# Altium footprint library CAPC0816X050.PcbLib: 3 footprints
Each footprint in its own frame and in the unit in brackets; x right, y up, seen from the top. Pads: shape width x height; smd on the part's side, far side on the other; paste and mask are expansions set on the pad; w line width, h text height; cw(c..) or ccw(c..) is an arc to the next point about the centre after c.
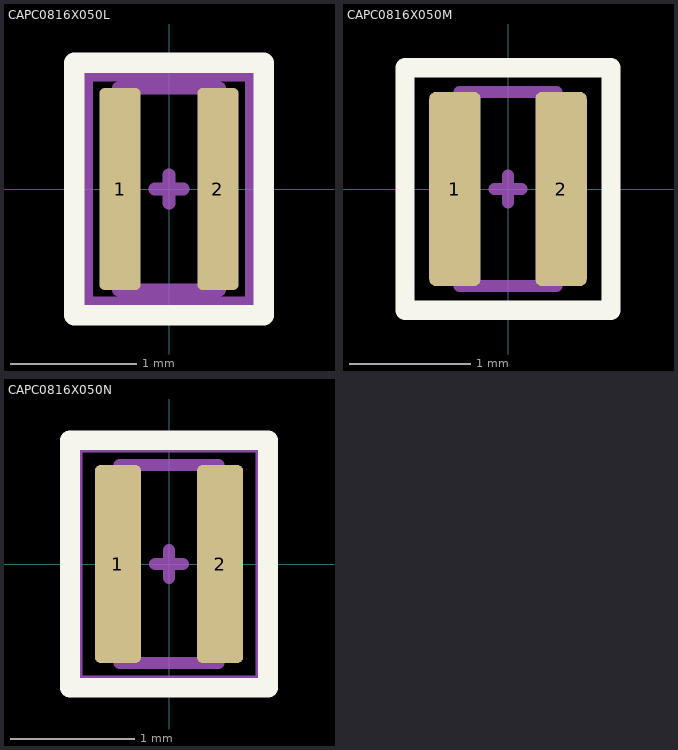
[diagram p0: the footprints below, top view; thin cyan lines are the x and y axes]

## CAPC0816X050L [mm] "Capacitors, Chip, Non-polarized"
height 0.55
pads (2):
  rrect25% 0.325x1.6 smd: 1(-0.387,0) 2(0.387,0)
Top Overlay:
  lines w0.16: -0.75,-1 0.75,-1 0.75,1 -0.75,1 -0.75,-1
Top Component Center:
  lines w0.1: -0.112,0 0.112,0 ; 0,-0.112 0,0.112
Top Courtyard:
  lines w0.1: -0.65,-0.9 0.65,-0.9 0.65,0.9 -0.65,0.9 -0.65,-0.9
Top Assembly:
  lines w0.1: -0.4,-0.8 0.4,-0.8 0.4,0.8 -0.4,0.8 -0.4,-0.8
  text ".Designator" at 0,0 h1
3D body "CAPC0816X050L.STEP": height 0.5, standoff 0, extent -0.4,-0.8 0.4,0.8

## CAPC0816X050M [mm] "Capacitors, Chip, Non-polarized"
height 0.55
pads (2):
  rrect25% 0.425x1.6 smd: 1(-0.437,0) 2(0.437,0)
Top Overlay:
  lines w0.16: -0.85,-1 0.85,-1 0.85,1 -0.85,1 -0.85,-1
Top Component Center:
  lines w0.1: -0.112,0 0.112,0 ; 0,-0.112 0,0.112
Top Courtyard:
  lines w0.1: -0.85,-1 0.85,-1 0.85,1 -0.85,1 -0.85,-1
Top Assembly:
  lines w0.1: -0.4,-0.8 0.4,-0.8 0.4,0.8 -0.4,0.8 -0.4,-0.8
  text ".Designator" at 0,0 h1
3D body "CAPC0816X050M.STEP": height 0.5, standoff 0, extent -0.4,-0.8 0.4,0.8

## CAPC0816X050N [mm] "Capacitors, Chip, Non-polarized"
height 0.55
pads (2):
  rrect25% 0.375x1.6 smd: 1(-0.412,0) 2(0.412,0)
Top Overlay:
  lines w0.16: -0.8,-1 0.8,-1 0.8,1 -0.8,1 -0.8,-1
Top Component Center:
  lines w0.1: -0.112,0 0.112,0 ; 0,-0.112 0,0.112
Top Courtyard:
  lines w0.1: -0.75,-0.95 0.75,-0.95 0.75,0.95 -0.75,0.95 -0.75,-0.95
Top Assembly:
  lines w0.1: -0.4,-0.8 0.4,-0.8 0.4,0.8 -0.4,0.8 -0.4,-0.8
  text ".Designator" at 0,0 h1
3D body "CAPC0816X050N.STEP": height 0.5, standoff 0, extent -0.4,-0.8 0.4,0.8